# Altium schematic symbol library Diodes.SchLib: 10 symbols
Pins are listed as number, name and electrical type; pins without a type are passive.

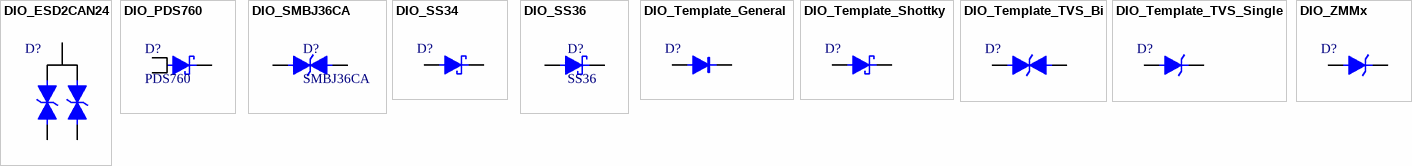
[diagram p0: symbols DIO_ESD2CAN24 to DIO_ZMMx]

## DIO_ESD2CAN24
designator D?, comment ESD2CAN24  (value not drawn)
Bidirectional ESD protection diode for CAN interface protection, support data rates 10 Mbps; Mfr. Part: ESD2CAN24-ES; JLCPCB Part: ?; LCSC Part: ?
footprint DIO_ESD2CAN24
pins: 1, 2, 3

## DIO_PDS760
designator D?, comment PDS760
PDS760 Series 60 V 7 A Surface Mount Schottky Barrier Rectifier - PowerDI-5; Mrf.Part: ?; LCSC Part: ?; JLCPCB Part: ?
footprint DIO_PDS760
pins: 1 A, 2 A, 3 K

## DIO_SMBJ36CA
designator D?, comment SMBJ36CA
58.1V Clamp 10.4A Ipp,600W, 2-Pin, DO-214AA; Mrf. Part: ?; LCSC Part: ?; JLCPCB Part: ?; Name: ?
footprint DIO_SMBJ36CA
pins: 1 C, 2 A

## DIO_SS34
designator D?, comment SS34  (value not drawn)
40V 500mV@3A 3A SMC (SBD); Mfr. Part: ?; JLCPCB Part: ?; LCSC Part: ?
footprint DIO_SMA (Molded Diode, 2-Leads, Body 4.25x2.50mm, IPC Medium Density)
footprint DIO_SMB (Molded Diode, 2-Leads, Body 4.31x3.62mm, IPC Medium Density)
pins: A, C

## DIO_SS36
designator D?, comment SS36
60V 3A 700mV@3A SMB Schottky Barrier Diodes; Mrf. Part: ?; LCSC Part: ?; JLCPCB Part: ?
footprint DIO_SMB (Molded Diode, 2-Leads, Body 4.31x3.62mm, IPC Medium Density)
pins: A, C

## DIO_Template_General
designator D?, comment ?  (value not drawn)
Where is the description?; Mfr. Part: ?; JLCPCB Part: ?; LCSC Part: ?; Name: ?
pins: A 2, C 1

## DIO_Template_Shottky
designator D?, comment ?  (value not drawn)
Where is the description?; Mfr. Part: ?; JLCPCB Part: ?; LCSC Part: ?; Name: ?
pins: A, C

## DIO_Template_TVS_Bi
designator D?, comment ?  (value not drawn)
Where is the description?; Mfr. Part: ?; JLCPCB Part: ?; LCSC Part: ?; Name: ?
pins: A 2, C 1

## DIO_Template_TVS_Single
designator D?, comment ?  (value not drawn)
Where is the description?; Mfr. Part: ?; JLCPCB Part: ?; LCSC Part: ?; Name: ?
pins: A 2, C 1

## DIO_ZMMx
designator D?, comment ?  (value not drawn)
SOD-80C Zener Diodes ROHS; Mfr. Part: ?; JLCPCB Part: ?; LCSC Part: ?; Name: ?
footprint DIO_MELF3515N (MELF Diode, 2-Leads, Body 3.50x1.45mm, IPC Medium Density)
pins: A 2, C 1